# Altium footprint library Keystone_7698.PCBLIB: 1 footprints
Each footprint in its own frame and in the unit in brackets; x right, y up, seen from the top. Pads: shape width x height; smd on the part's side, far side on the other; paste and mask are expansions set on the pad; w line width, h text height; cw(c..) or ccw(c..) is an arc to the next point about the centre after c.
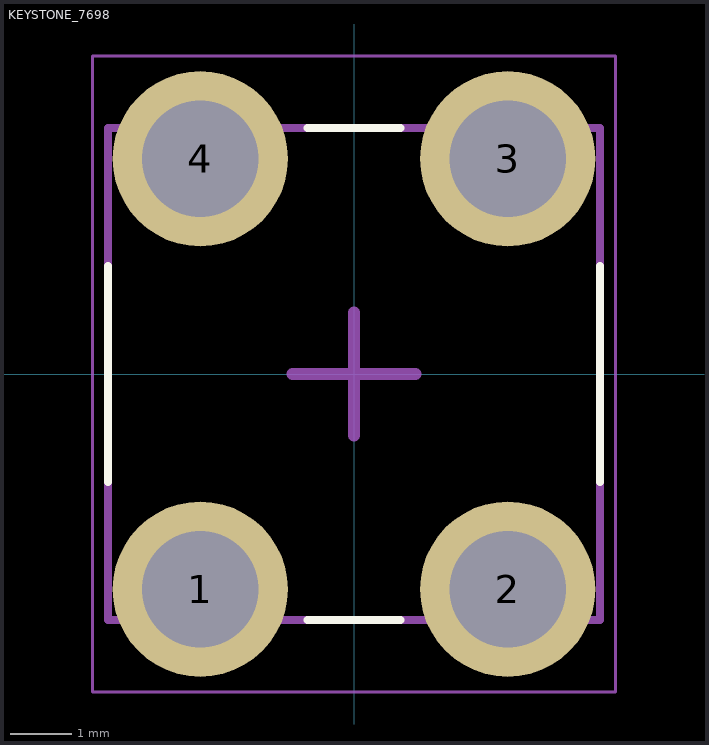
[diagram p0: the footprint, top view; thin cyan lines are the x and y axes]

## KEYSTONE_7698 [mm]
height 6.83
pads (4):
  round 2.85 hole 1.9: 1(-2.5,-3.5) 2(2.5,-3.5) 3(2.5,3.5) 4(-2.5,3.5)
Top Overlay:
  lines w0.127: -4,-1.755 -4,1.755 ; -0.755,-4 0.755,-4 ; -0.755,4 0.755,4 ; 4,-1.755 4,1.755
Top Assembly:
  lines w0.127: -4,-4 4,-4 4,4 -4,4 -4,-4
Top Courtyard:
  lines w0.05: -4.25,-5.175 4.25,-5.175 4.25,5.175 -4.25,5.175 -4.25,-5.175
Top Designator:
  text ".Designator" at -0.8,-0.4 h0.76
Top Component Center:
  lines w0.2: -1,0 1,0 ; 0,-1 0,1
3D body "step_temp.STEP": height 17.21, standoff -6.42, extent -4.444,-3.937 4.445,3.937